# Altium integrated library TVS_NUP2105LT1G.IntLib: 1 symbol
Pins are listed as number, name and electrical type; pins without a type are passive.

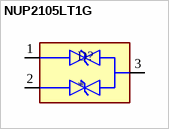
[diagram p0: symbol NUP2105LT1G]

## NUP2105LT1G
designator D?
MP: NUP2105LT1G; Availability: Unavailable; Value: *; Package: None; Price: None
footprint SOT95P237X111-3N
pins: 1, 2, 3